# EAGLE library part AVX_10-PIN_009159010061916_33MIL-GAP (library Debug-Edge_AVX-connectors)
Open Ended Card Edge: BTB
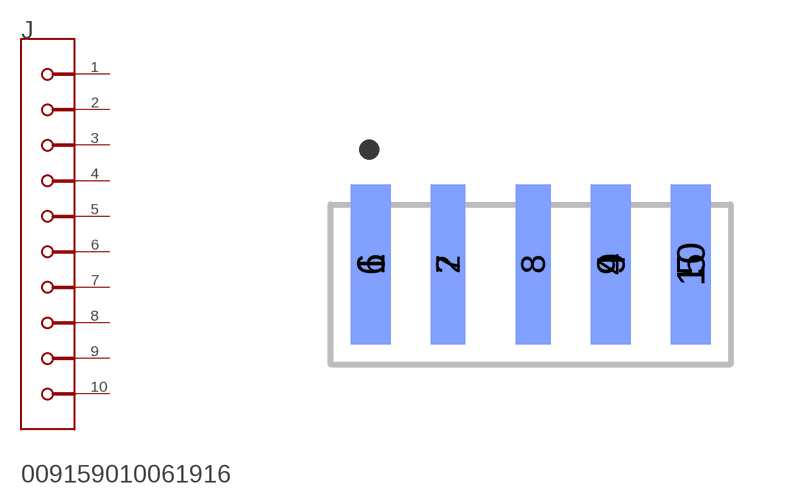
[diagram p0: symbol with the pads of AVX_10-PIN_009159010061916_33MIL-GAP; footprint AVX_10-PIN_009159010061916_33MIL-GAP]

Designator prefix J

## AVX_10-PIN_009159010061916_33MIL-GAPAVX_009159010061916_0_0 (CENTROID_NOT_SPECIFIED: No; DATASHEET: http://datasheets.avx.com/OpenEndedCard%20Edge_00-9159.pdf; DIGIKEY_DESCRIPTION: CONN SSL BRIDGE 10POS 2MM; DIGIKEY_PART_NUMBER: 478-8659-ND; IS_FEMALE: yes; LEAD_FREE: yes; MF: AVX; MOUSER_PART_NUMBER: 581-009159010061916; MPN: 009159010061916; OCTOPART_PART_NUMBER: +125°C; PACKAGE: CONN_SMT; PREFIX: J; ROHS: yes; TEMPERATURE_RANGE_HIGH: +125°C; TEMPERATURE_RANGE_LOW: -40°C)  [AVX_10-PIN_009159010061916_33MIL-GAP]
1  1
2  2
3  3
4  4
5  5
6  6
7  7
8  8
9  9
10  10

## Footprint AVX_10-PIN_009159010061916_33MIL-GAP (pad centres in mm)
Open Ended Card Edge: BTB
smd 1 x 4: 1 -4,2.5; 4 2,2.5; 5 4,2.5
smd 0.873 x 4: 2 -2.063,2.5; 3 0.064,2.5
smd 1 x 4 bottom: 6 -4,2.5; 9 2,2.5; 10 4,2.5
smd 0.873 x 4 bottom: 7 -2.063,2.5; 8 0.064,2.5